# Altium schematic symbol library AH374-SC59.SchLib: 1 symbol
Pins are listed as number, name and electrical type; pins without a type are passive.

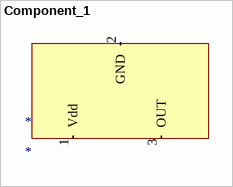
[diagram p0: symbol Component_1]

## Component_1
designator *
footprint Component_1
pins: 1 Vdd, 2 GND, 3 OUT